# Altium schematic symbol library WG7311-0A.Schlib: 1 symbol
Pins are listed as number, name and electrical type; pins without a type are passive.

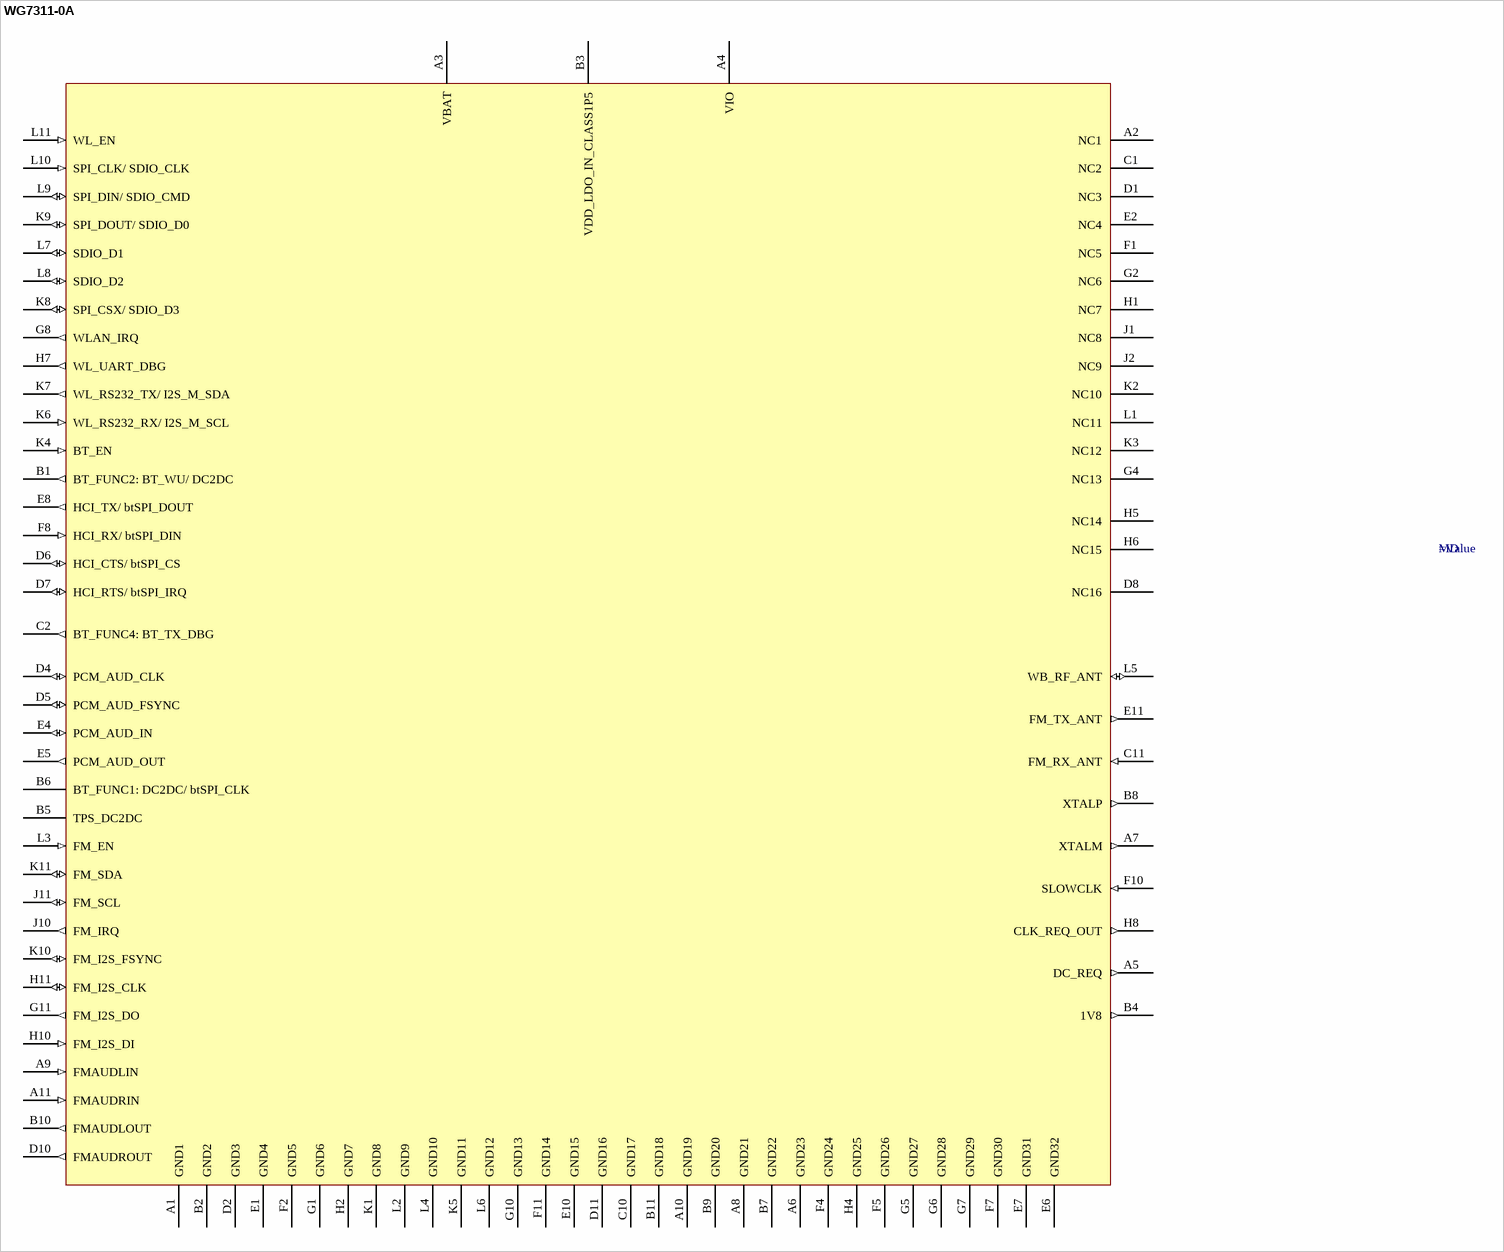
[diagram p0: symbol WG7311-0A]

## WG7311-0A
designator MD
=Description
pins: A1 GND1 (power), A2 NC1, A3 VBAT (power), A4 VIO (power), A5 DC_REQ (out), A6 GND23 (power), A7 XTALM (out), A8 GND21 (power), A9 FMAUDLIN (in), A10 GND19 (power), A11 FMAUDRIN (in), B1 BT_FUNC2: BT_WU/ DC2DC (out), B2 GND2 (power), B3 VDD_LDO_IN_CLASS1P5 (power), B4 1V8 (out), B5 TPS_DC2DC, B6 BT_FUNC1: DC2DC/ btSPI_CLK, B7 GND22 (power), B8 XTALP (out), B9 GND20 (power), B10 FMAUDLOUT (out), B11 GND18 (power), C1 NC2, C2 BT_FUNC4: BT_TX_DBG (out), C10 GND17 (power), C11 FM_RX_ANT (in), D1 NC3, D2 GND3 (power), D4 PCM_AUD_CLK (io), D5 PCM_AUD_FSYNC (io), D6 HCI_CTS/ btSPI_CS (io), D7 HCI_RTS/ btSPI_IRQ (io), D8 NC16, D10 FMAUDROUT (out), D11 GND16 (power), E1 GND4 (power), E2 NC4, E4 PCM_AUD_IN (io), E5 PCM_AUD_OUT (out), E6 GND32 (power), E7 GND31 (power), E8 HCI_TX/ btSPI_DOUT (out), E10 GND15 (power), E11 FM_TX_ANT (out), F1 NC5, F2 GND5 (power), F4 GND24 (power), F5 GND26 (power), F7 GND30 (power), F8 HCI_RX/ btSPI_DIN (in), F10 SLOWCLK (in), F11 GND14 (power), G1 GND6 (power), G2 NC6, G4 NC13, G5 GND27 (power), G6 GND28 (power), G7 GND29 (power), G8 WLAN_IRQ (out), G10 GND13 (power), G11 FM_I2S_DO (out), H1 NC7, H2 GND7 (power), H4 GND25 (power), H5 NC14, H6 NC15, H7 WL_UART_DBG (out), H8 CLK_REQ_OUT (out), H10 FM_I2S_DI (in), H11 FM_I2S_CLK (io), J1 NC8, J2 NC9, J10 FM_IRQ (out), J11 FM_SCL (io), K1 GND8 (power), K2 NC10, K3 NC12, K4 BT_EN (in), K5 GND11 (power), K6 WL_RS232_RX/ I2S_M_SCL (in), K7 WL_RS232_TX/ I2S_M_SDA (out), K8 SPI_CSX/ SDIO_D3 (io), K9 SPI_DOUT/ SDIO_D0 (io), K10 FM_I2S_FSYNC (io), K11 FM_SDA (io), L1 NC11, L2 GND9 (power), L3 FM_EN (in), L4 GND10 (power), L5 WB_RF_ANT (io), L6 GND12 (power), L7 SDIO_D1 (io), L8 SDIO_D2 (io), L9 SPI_DIN/ SDIO_CMD (io), L10 SPI_CLK/ SDIO_CLK (in), L11 WL_EN (in)